# Altium schematic symbol library DRV8353SRTAR.SchLib: 1 symbol
Pins are listed as number, name and electrical type; pins without a type are passive.

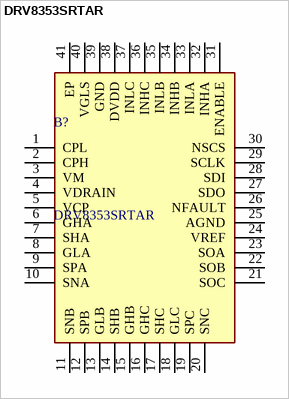
[diagram p0: symbol DRV8353SRTAR]

## DRV8353SRTAR
designator B?
Triple Half Bridge Motor Driver 40-Pin WQFN EP T/R; Manufacturer_Name: Texas Instruments; Geometry.Height: 0.8mm; Mouser Part Number: 595-DRV8353SRTAR; Mouser Price/Stock: https://www.mouser.co.uk/ProductDetail/Texas-Instruments/DRV8353SRTAR?qs=lc2O%252BfHJPVaoqU4BRWcLKw%3D%3D; Manufacturer_Part_Number: DRV8353SRTAR; Datasheet Link: https://www.ti.com/general/docs/suppproductinfo.tsp?distId=10&gotoUrl=http%253A%252F%252Fwww.ti.com%252Flit%252Fgpn%252Fdrv8353
footprint QFN50P600X600X80-41N-D
pins: 1 CPL, 2 CPH, 3 VM, 4 VDRAIN, 5 VCP, 6 GHA, 7 SHA, 8 GLA, 9 SPA, 10 SNA, 11 SNB, 12 SPB, 13 GLB, 14 SHB, 15 GHB, 16 GHC, 17 SHC, 18 GLC, 19 SPC, 20 SNC, 21 SOC, 22 SOB, 23 SOA, 24 VREF, 25 AGND, 26 NFAULT, 27 SDO, 28 SDI, 29 SCLK, 30 NSCS, 31 ENABLE, 32 INHA, 33 INLA, 34 INHB, 35 INLB, 36 INHC, 37 INLC, 38 DVDD, 39 GND, 40 VGLS, 41 EP